# Altium schematic symbol library PH20.SchLib: 1 symbol
Pins are listed as number, name and electrical type; pins without a type are passive.

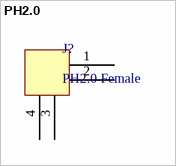
[diagram p0: symbol PH2.0]

## PH2.0
designator J?, comment PH2.0 Female
2 Header PH 0.079"(2.00mm) Male Pin SMD,P=2mm Wire To Board / Wire To Wire Connector ROHS
footprint PH2.0 FEMALE
pins: 1 Pin 1, 2 Pin 2, 3 Pin 3, 4 Pin 4